# EAGLE library part AP2115M-3.3TRG1 (library AP2115M-3.3TRG1)
AP2115M-3.3TRG1 3.3V Low dropout regulator. 6V max input, 750mV max dropout voltage. Ordering link: Digikey <https://www.digikey.com/en/products/detail/diodes-incorporated/AP2115M-3-3TRG1/5305574>
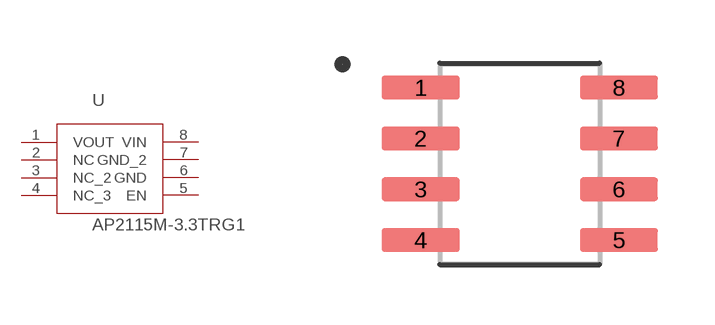
[diagram p0: symbol with the pads of SOIC127P600X175-8N; footprint SOIC127P600X175-8N]

Designator prefix U

## AP2115M-3.3TRG1  [SOIC127P600X175-8N]
1  VOUT
2  NC  nc
3  NC_2  nc
4  NC_3  nc
5  EN
6  GND
7  GND_2
8  VIN

## Footprint SOIC127P600X175-8N (pad centres in mm)
AP2115M-3.3TRG1 Low dropout 3.3V regulator- 6V max input voltage, 750mV max dropout voltage
smd 1.95 x 0.59: 1 -2.48,1.905; 2 -2.48,0.635; 3 -2.48,-0.635; 4 -2.48,-1.905; 5 2.48,-1.905; 6 2.48,-0.635; 7 2.48,0.635; 8 2.48,1.905